# Altium schematic symbol library symbols.SchLib: 12 symbols
Pins are listed as number, name and electrical type; pins without a type are passive.

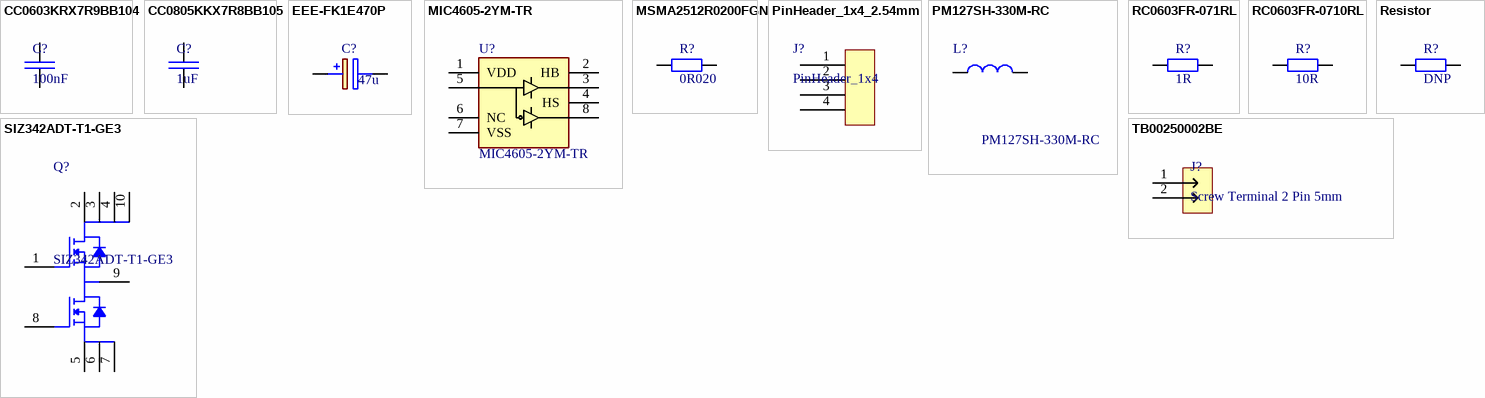
[diagram p0: symbols CC0603KRX7R9BB104 to TB00250002BE]

## CC0603KRX7R9BB104
designator C?, comment 100nF
CAP 100nF SM0603 X7R 50V YAGEO CC2; Manufacturer Part Number: CC0603KRX7R9BB104; Tolerance (%): 10; Voltage Rating (Volts): 50; Category: Capacitor; Manufacturer: Yageo; Package: 0603; Value: 100nF; ComponentLink1URL: http://www.yageo.com; ComponentLink1Description: Manufacturer Website; Supplier 1: Farnell; Supplier Part Number 1: 1362556; Supplier 2: Mouser; Supplier Part Number 2: 603-CC603KRX7R9BB104
footprint CAP_SM0603_YAGEOCC2_N (Capacitor, Yageo CC Class2, SM0603, IPC Medium Density)
pins: 1, 2

## CC0805KKX7R8BB105
designator C?, comment 1uF
CAP 1uF SM0805 X7R 25V YAGEO CC2; Manufacturer Part Number: CC0805KKX7R8BB105; Tolerance (%): 10; Voltage Rating (Volts): 25; Category: Capacitor; Manufacturer: Yageo; Package: 0805; Value: 1uF; ComponentLink1URL: http://www.yageo.com; ComponentLink1Description: Manufacturer Website; Supplier 1: Farnell; Supplier Part Number 1: 1458903; Supplier 2: Digi-Key; Supplier Part Number 2: 311-1456-1-ND; Supplier 3: Mouser; Supplier Part Number 3: 603-CC805KKX7R8BB105
footprint CAP_SM0805_YAGEOCC2_N (Capacitor, Yageo CC Class2, SM0805, IPC Medium Density)
pins: 1, 2

## EEE-FK1E470P
designator C?, comment 47u
Aluminium Electrolytic Capacitors - SMD 47uF 25V; Value: 47u; Supplier 1: Mouser; Supplier Part Number 1: 667-EEE-FK1E470P; Supplier 2: Digi-Key; Supplier Part Number 2: PCE3804CT-ND; Supplier 3: Digi-Key; Supplier Part Number 3: PCE3804DKR-ND
footprint CAPAE7366X61N (Aluminum Electrolytic Capacitor, Body 6,60x6,60x6,10mm, IPC Medium Density)
pins: 1 +, 2 -

## MIC4605-2YM-TR
designator U?
Gate Drivers 85V Half Bridge MOSFET Driver; Manufacturer_Name: Microchip; Geometry.Height: 1.63mm; Mouser Part Number: 998-MIC4605-2YM-TR; Mouser Price/Stock: https://www.mouser.co.uk/ProductDetail/Microchip-Technology/MIC4605-2YM-TR?qs=U6T8BxXiZAVl8W1xjIUxZQ%3D%3D; Manufacturer_Part_Number: MIC4605-2YM-TR; Datasheet Link: http://www.microchip.com/mymicrochip/filehandler.aspx?ddocname=en579235; Supplier 1: Arrow Electronics; Supplier Part Number 1: MIC4605-2YM-TR; Supplier 2: Digi-Key; Supplier Part Number 2: 576-4463-1-ND; Supplier 3: Digi-Key; Supplier Part Number 3: 576-4463-6-ND; Supplier 4: Mouser; Supplier Part Number 4: 998-MIC4605-2YM-TR
footprint SOIC127P600X163-8N
pins: 1 VDD, 2 HB, 3 HO, 4 HS, 5 PWM, 6 NC, 7 VSS, 8 LO

## MSMA2512R0200FGN
designator R?, comment 0R020
RES SM0603YAGEO RC_L; Value: 0R020; Supplier 1: Digi-Key; Supplier Part Number 1: 283-MSMA2512R0200FGNCT-ND; Supplier 2: Digi-Key; Supplier Part Number 2: 283-MSMA2512R0200FGNDKR-ND; Supplier 3: Mouser; Supplier Part Number 3: 504-MSMA2512R0200FGN
footprint MSMA2512R0200FGN (Footprint not found)
pins: 1, 2

## PinHeader_1x4_2.54mm
designator J?, comment PinHeader_1x4
PinHeader_1x4 2.54mm Pitch
footprint PinHeader_1x4_2.54mm (Footprint not found)
pins: 1, 2, 3, 4

## PM127SH-330M-RC
designator L?
Bourns PM127SH Series Shielded Wire-wound SMD Inductor with a Ferrite Core, 33 uH +/-20% Wire-Wound 3.5A Idc Q:28; Geometry.Height: 8mm; Mouser Part Number: 542-PM127SH-330M-RC; Mouser Price/Stock: https://www.mouser.co.uk/ProductDetail/Bourns/PM127SH-330M-RC?qs=eR5JJ6cMb%252Bbm7NbWn3468w%3D%3D; Manufacturer_Name: Bourns; Manufacturer_Part_Number: PM127SH-330M-RC; Datasheet Link: https://www.bourns.com/docs/Product-Datasheets/pm127sh_series.pdf; Supplier 1: Digi-Key; Supplier Part Number 1: PM127SH-330M-RCCT-ND; Supplier 2: Digi-Key; Supplier Part Number 2: PM127SH-330M-RCDKR-ND; Supplier 3: Mouser; Supplier Part Number 3: 542-PM127SH-330M-RC
footprint PM127SH330MRC
pins: 1, 2

## RC0603FR-071RL
designator R?, comment 1R
RES 1R SM0603YAGEO RC_L; Manufacturer: Yageo; Manufacturer Part Number: RC0805FR-0710RL; Power (Watts): 0.125; Resistance (Ohms): 10; Tolerance (%): 1; Category: Resistor; Package: 0805; Value: 1R; ComponentLink1Description: Manufacturer Website; ComponentLink1URL: http://www.yageo.com; Supplier 1: Digi-Key; Supplier Part Number 1: 311-1.00HRCT-ND; Supplier 2: Digi-Key; Supplier Part Number 2: 311-1.00HRDKR-ND; Supplier 3: Mouser; Supplier Part Number 3: 603-RC0603FR-071RL
footprint RES_SM0603_YAGEORC_N (Resistor, Yageo RC_L, SM0603, IPC Medium Density)
pins: 1, 2

## RC0603FR-0710RL
designator R?, comment 10R
RES 10R SM0603 YAGEO RC_L; Manufacturer Part Number: RC0603FR-0710RL; Power (Watts): 0.1; Resistance (Ohms): 10; Tolerance (%): 1; Category: Resistor; Manufacturer: Yageo; Package: 0603; Value: 10R; Supplier Part Number 1: 9238247; Supplier 1: Farnell; ComponentLink1URL: http://www.yageo.com; ComponentLink1Description: Manufacturer Website; Supplier 2: Digi-Key; Supplier Part Number 2: 311-10.0HRCT-ND
footprint RES_SM0603_YAGEORC_N (Resistor, Yageo RC_L, SM0603, IPC Medium Density)
pins: 1, 2

## Resistor
designator R?, comment DNP
RES SM0603YAGEO RC_L; Manufacturer: Yageo; Manufacturer Part Number: RC0805FR-0710RL; Power (Watts): 0.125; Resistance (Ohms): 10; Tolerance (%): 1; Category: Resistor; Package: 0805; Value: DNP; ComponentLink1Description: Manufacturer Website; ComponentLink1URL: http://www.yageo.com; Supplier 1: Digi-Key; Supplier Part Number 1: 311-1.00HRCT-ND; Supplier 2: Digi-Key; Supplier Part Number 2: 311-1.00HRDKR-ND; Supplier 3: Mouser; Supplier Part Number 3: 603-RC0603FR-071RL
footprint RES_SM0603_YAGEORC_N (Resistor, Yageo RC_L, SM0603, IPC Medium Density)
pins: 1, 2

## SIZ342ADT-T1-GE3
designator Q?
MOSFET 30V Vds 20V Vgs PowerPAIR 3 x 3; Manufacturer_Name: Vishay Semiconductors; Geometry.Height: 0.8mm; Mouser Part Number: 78-SIZ342ADT-T1-GE3; Manufacturer_Part_Number: SIZ342ADT-T1-GE3; Datasheet Link: https://www.vishay.com/doc?76711; Supplier 1: Mouser; Supplier Part Number 1: 78-SIZ342ADT-T1-GE3
footprint SIZ342ADT-T1-GE3
pins: 1 G1, 2 D, 3 D, 4 D, 5 D, 6 D, 7 D, 8 G2, 9 D, 10 D

## TB00250002BE
designator J?, comment Screw Terminal 2 Pin 5mm
Fixed Terminal Blocks Terminal block, screw type, 5.00, horizontal, 2 poles, CUI Blue, slotted screw, PCB mount
footprint TB00250002BE
pins: 1, 2